# Altium footprint library 0431600104.PcbLib: 1 footprints
Each footprint in its own frame and in the unit in brackets; x right, y up, seen from the top. Pads: shape width x height; smd on the part's side, far side on the other; paste and mask are expansions set on the pad; w line width, h text height; cw(c..) or ccw(c..) is an arc to the next point about the centre after c.
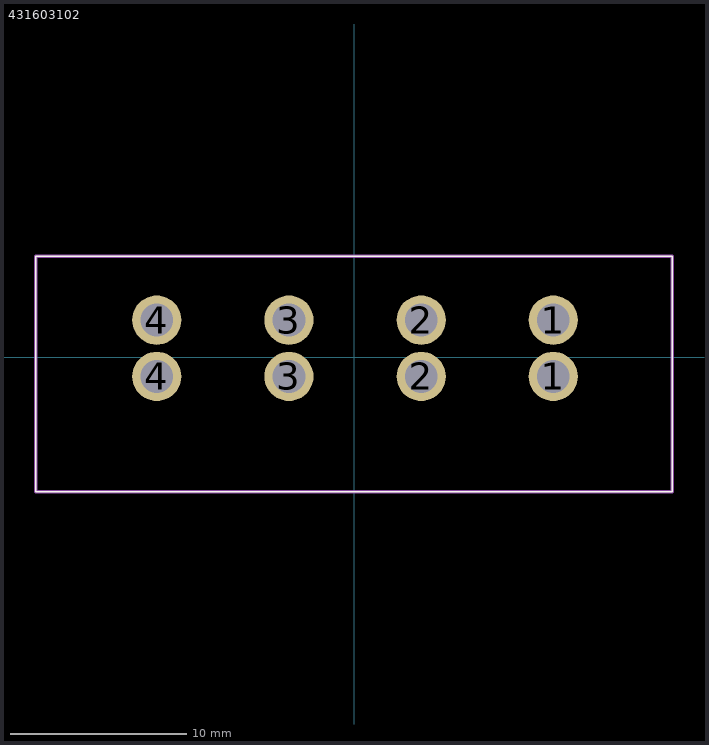
[diagram p0: the footprint, top view; thin cyan lines are the x and y axes]

## 431603102 [mm]
pads (8):
  round 2.79 hole 1.86: 1(11.292,-1.091) 1(11.292,2.1) 2(3.81,-1.091) 2(3.81,2.1) 3(-3.69,-1.091) 3(-3.69,2.1) 4(-11.18,-1.091) 4(-11.18,2.1)
L26-Silk Screen Top (Multiple PADS layers...):
  lines w0.1: -18.034,-7.62 -18.034,-4.286 -18.034,2.381 -18.034,5.715 18.034,5.715 18.034,-7.62 -18.034,-7.62
L15 (Multiple PADS layers...):
  lines w0.2: -18.034,-7.62 14.859,-7.62 18.034,-7.62 18.034,-4.445 18.034,5.715 -18.034,5.715 -18.034,-7.62
3D body "431600104.stp": height 15.38, standoff -3.19, extent -18.004,-7.656 18.064,5.73